# Altium schematic symbol library i6A 24V.SchLib: 5 symbols
Pins are listed as number, name and electrical type; pins without a type are passive.

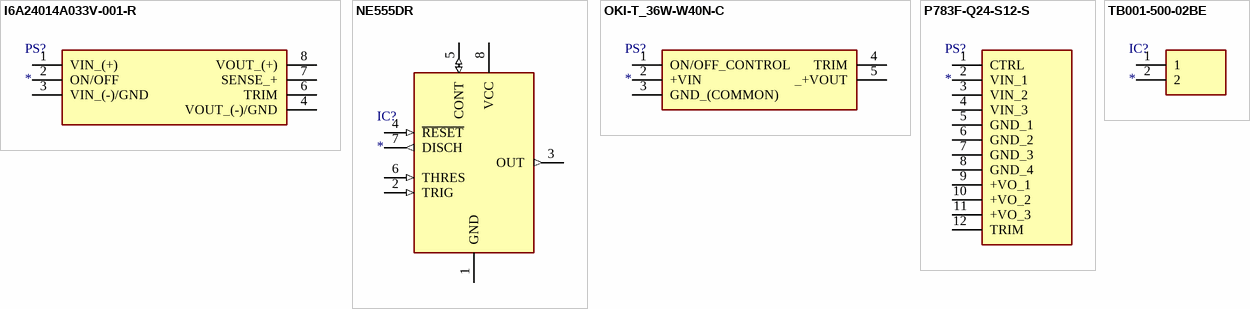
[diagram p0: symbols I6A24014A033V-001-R to TB001-500-02BE]

## I6A24014A033V-001-R
designator PS?
Power Supply; Manufacturer_Name: TDK; Manufacturer_Part_Number: I6A24014A033V-001-R; Datasheet Link: https://componentsearchengine.com//I6A24014A033V-001-R.pdf; Height: 12.1mm; Mouser2 Part Number: 967-I6A24014A033V001; Mouser2 Price/Stock: https://www.mouser.com/Search/Refine.aspx?Keyword=967-I6A24014A033V001
footprint I6A24014A033V001R
pins: 1 VIN_(+), 2 ON/OFF, 3 VIN_(-)/GND, 4 VOUT_(-)/GND, 6 TRIM, 7 SENSE_+, 8 VOUT_(+)

## NE555DR
designator IC?
Integrated Circuit; Manufacturer_Name: Texas Instruments; Manufacturer_Part_Number: NE555DR; Datasheet Link: http://www.ti.com/lit/ds/symlink/ne555.pdf; Height: 1.75mm; Mouser Part Number: 595-NE555DR; Mouser Price/Stock: https://www.mouser.com/Search/Refine.aspx?Keyword=595-NE555DR; RS Part Number: 1218414; RS Price/Stock: http://uk.rs-online.com/web/p/products/1218414
footprint SOIC127P600X175-8N
pins: 1 GND (power), 2 TRIG (in), 3 OUT (out), 4 ~{RESET} (in), 5 CONT (io), 6 THRES (in), 7 DISCH (out), 8 VCC (power)

## OKI-T_36W-W40N-C
designator PS?
Power Supply; Manufacturer_Name: Murata Electronics; Manufacturer_Part_Number: OKI-T/36W-W40N-C; Datasheet Link: https://componentsearchengine.com//OKI-T_36W-W40N-C.pdf; Height: 9mm; Mouser2 Part Number: 580-OKI-T/36W-W40N-C; Mouser2 Price/Stock: https://www.mouser.com/Search/Refine.aspx?Keyword=580-OKI-T%2F36W-W40N-C
footprint OKIT36WW40NC
pins: 1 ON/OFF_CONTROL, 2 +VIN, 3 GND_(COMMON), 4 TRIM, 5 _+VOUT

## P783F-Q24-S12-S
designator PS?
Power Supply; Manufacturer_Name: CUI Inc.; Manufacturer_Part_Number: P783F-Q24-S12-S; Datasheet Link: https://www.cui.com/product/resource/p783f-s.pdf; Height: 13mm
footprint P783FQ24S12S
pins: 1 CTRL, 2 VIN_1, 3 VIN_2, 4 VIN_3, 5 GND_1, 6 GND_2, 7 GND_3, 8 GND_4, 9 +VO_1, 10 +VO_2, 11 +VO_3, 12 TRIM

## TB001-500-02BE
designator IC?
Integrated Circuit; Manufacturer_Name: CUI Inc.; Manufacturer_Part_Number: TB001-500-02BE; Datasheet Link: https://componentsearchengine.com//TB001-500-02BE.pdf; Height: 12.9mm; Mouser2 Part Number: 490-TB001-500-02BE; Mouser2 Price/Stock: https://www.mouser.com/Search/Refine.aspx?Keyword=490-TB001-500-02BE
footprint TB00150002BE
pins: 1, 2